# Altium schematic symbol library Connectors-Molex.SchLib: 9 symbols
Pins are listed as number, name and electrical type; pins without a type are passive.

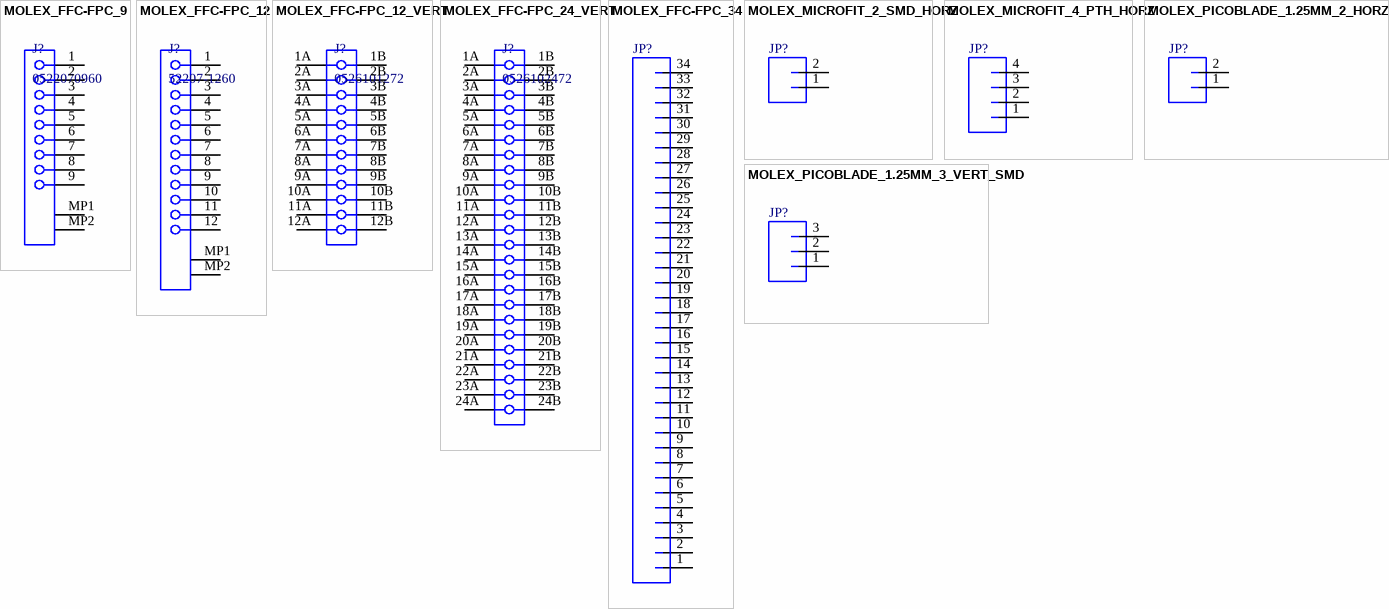
[diagram p0: symbols MOLEX_FFC-FPC_9 to MOLEX_PICOBLADE_1.25MM_3_VERT_SMD]

## MOLEX_FFC-FPC_9
designator J?, comment 0522070960
1.0 mm Pitch Easy-On(TM) Type FPC Connector, 2.7 mm Mated Height, Right Angle, ZIF, SMT, Top Contact, 9 Circuits, -30 to 85 degC, ELV and RoHS Compliant, Tape and Reel; Manufacturer: Molex; Polarized to PCB: Yes; Material - Metal: Phosphor Bronze; Material - Plating Termination: Tin; Mated Height: 2.70mm; Pitch - Mating Interface: 1.00mm; Entry Angle: 90degrees Angle; Current (Max per Contact): 1A; Durability (mating cycles max): 30; Circuits (Loaded): 9; Voltage (Max): 125V; Material - Plating Mating: Gold; PCB Locator: No; PartNumber: 0522070960; Number of Rows: 1; ComponentLink1Description: Manufacturer URL; Packing: Tape and Reel; RoHS: TRUE; ComponentLink1URL: http://www.molex.com/molex/index.jsp; PCB Retention: Yes; PackageReference: 0522070960; ComponentLink3Description: Package Specification; Pitch - Termination Interface: 1.00mm; Contact Position: Top; ComponentLink2Description: Datasheet; ComponentLink2URL: http://www.molex.com/webdocs/datasheets/pdf/en-us/0522070960_FFC_FPC_CONNECTORS.pdf; Stackable: No; ComponentLink3URL: http://www.molex.com/pdm_docs/sd/522070960_sd.pdf; Orientation: Right Angle; PackageDescription: 9-Lead FPC Connector, Pitch 1.0 mm; PackageVersion: Rev. F, 03/2007; Mounting Technology: Surface Mount
footprint MOLEX-FFC-FPC-1MM-9 (FPC Connector, 9-Leads, Right Angle, Pitch 1.0 mm, Mated Height 2.7 mm, SMT)
pins: 1, 2, 3, 4, 5, 6, 7, 8, 9, MP1, MP2

## MOLEX_FFC-FPC_12
designator J?, comment 52207-1260
1.0 mm Pitch Easy-On(TM) Type FPC Connector, 2.7 mm Mated Height, Right Angle, ZIF, SMT, Top Contact, 12 Circuits, -30 to 85 degC, ELV and RoHS Compliant, Tape and Reel; Manufacturer: Molex; Material - Plating Mating: Gold; Material - Metal: Phosphor Bronze; Voltage (Max): 125V; PCB Locator: No; Circuits (Loaded): 12; PCB Retention: Yes; Pitch - Termination Interface: 1.00mm; Current (Max per Contact): 1A; Mated Height: 2.70mm; Material - Plating Termination: Tin; Entry Angle: 90degrees Angle; Durability (mating cycles max): 30; ComponentLink3Description: Package Specification; Orientation: Right Angle; ComponentLink1Description: Manufacturer URL; PackageVersion: Rev. F, 03/2007; PackageReference: 522071260; RoHS: TRUE; Contact Position: Top; ComponentLink2URL: http://www.molex.com/webdocs/datasheets/pdf/en-us/0522071260_FFC_FPC_CONNECTORS.pdf; ComponentLink2Description: Datasheet; Pitch - Mating Interface: 1.00mm; Packing: Tape and Reel; PackageDescription: 12-Lead FPC Connector, Pitch 1.0 mm; ComponentLink1URL: http://www.molex.com/molex/index.jsp; Mounting Technology: Surface Mount; PartNumber: 52207-1260; Number of Rows: 1; Stackable: No; Polarized to PCB: Yes; ComponentLink3URL: http://www.molex.com/pdm_docs/sd/522071260_sd.pdf
footprint MOLEX-FFC-FPC-1MM-12 (FPC Connector, 12-Leads, Right Angle, Pitch 1.0 mm, Mated Height 2.7 mm, SMT)
pins: 1, 2, 3, 4, 5, 6, 7, 8, 9, 10, 11, 12, MP1, MP2

## MOLEX_FFC-FPC_12_VERT
designator J?, comment 0526101272
1.0 mm Pitch Easy-On(TM) Type FPC Connector, 5.75 mm Mated Height, Vertical, ZIF, SMT, 12 Circuits, -40 to 85 degC, ELV and RoHS Compliant, Tape and Reel; Manufacturer: Molex; PCB Retention: None; Material - Metal: Phosphor Bronze; PCB Locator: No; Current (Max per Contact): 1A; Material - Plating Mating: Gold; Circuits (Loaded): 12; Material - Plating Termination: Tin; Pitch - Mating Interface: 1.00mm; Mated Height: 5.75mm; Durability (mating cycles max): 30; Voltage (Max): 125V AC (RMS)/DC; ComponentLink2URL: http://www.molex.com/webdocs/datasheets/pdf/en-us/0526101272_FFC_FPC_CONNECTORS.pdf; Orientation: Vertical; PackageDescription: 12-Lead FPC Connector, Pitch 1.0 mm; ComponentLink2Description: Datasheet; Polarized to PCB: No; ComponentLink1Description: Manufacturer URL; Entry Angle: Vertical; PartNumber: 0526101272; PackageReference: 0526101272; Contact Position: N/A; Mounting Technology: Surface Mount; Stackable: No; ComponentLink3URL: http://www.molex.com/pdm_docs/sd/526101272_sd.pdf; ComponentLink1URL: http://www.molex.com/molex/index.jsp; Number of Rows: 1; RoHS: TRUE; PackageVersion: Rev. G, 02/2012; Packing: Tape and Reel; ComponentLink3Description: Package Specification
footprint MOLEX-FFC-FPC-1MM-12-VERT (FPC Connector, 12-Leads, Vertical, Pitch 1.0 mm, Mated Height 5.75 mm, SMT)
pins: 1A, 1B, 2A, 2B, 3A, 3B, 4A, 4B, 5A, 5B, 6A, 6B, 7A, 7B, 8A, 8B, 9A, 9B, 10A, 10B, 11A, 11B, 12A, 12B

## MOLEX_FFC-FPC_24_VERT
designator J?, comment 0526102472
1.0 mm Pitch Easy-On(TM) Type FPC Connector, 5.75 mm Mated Height, Vertical, ZIF, SMT, 24 Circuits, -40 to 85 degC, ELV and RoHS Compliant, Tape and Reel; Manufacturer: Molex; Pitch - Mating Interface: 1.00mm; Material - Plating Mating: Gold; Voltage (Max): 125V AC (RMS)/DC; Stackable: No; Circuits (Loaded): 24; Mated Height: 5.75mm; Material - Metal: Phosphor Bronze; Durability (mating cycles max): 30; Current (Max per Contact): 1A; PCB Retention: None; Material - Plating Termination: Tin; Packing: Tape and Reel; Contact Position: N/A; RoHS: TRUE; ComponentLink2Description: Datasheet; PackageReference: 0526102472; PackageVersion: Rev. G, 02/2012; ComponentLink1URL: http://www.molex.com/molex/index.jsp; PackageDescription: 24-Lead FPC Connector, Pitch 1.0 mm; ComponentLink3Description: Package Specification; Mounting Technology: Surface Mount; Orientation: Vertical; Number of Rows: 1; ComponentLink3URL: http://www.molex.com/pdm_docs/sd/526102472_sd.pdf; ComponentLink2URL: http://www.molex.com/webdocs/datasheets/pdf/en-us/0526102472_FFC_FPC_CONNECTORS.pdf; Polarized to PCB: No; Entry Angle: Vertical; ComponentLink1Description: Manufacturer URL; PCB Locator: No; PartNumber: 0526102472
footprint MOLEX-FFC-FPC-1MM-24-VERT (FPC Connector, 24-Leads, Vertical, Pitch 1.0 mm, Mated Height 5.75 mm, SMT)
pins: 1A, 1B, 2A, 2B, 3A, 3B, 4A, 4B, 5A, 5B, 6A, 6B, 7A, 7B, 8A, 8B, 9A, 9B, 10A, 10B, 11A, 11B, 12A, 12B, 13A, 13B, 14A, 14B, 15A, 15B, 16A, 16B, 17A, 17B, 18A, 18B, 19A, 19B, 20A, 20B, 21A, 21B, 22A, 22B, 23A, 23B, 24A, 24B

## MOLEX_FFC-FPC_34
designator JP?  (value not drawn)
Manufacturer: Molex; PartNumber: 51296-3494; PackageReference: FFC-FPC-0.5; Mounting Technology: Surface Mount
footprint MOLEX-FFC-FPC-0.5MM-34
pins: 1, 2, 3, 4, 5, 6, 7, 8, 9, 10, 11, 12, 13, 14, 15, 16, 17, 18, 19, 20, 21, 22, 23, 24, 25, 26, 27, 28, 29, 30, 31, 32, 33, 34

## MOLEX_MICROFIT_2_SMD_HORZ
designator JP?
Manufacturer: Molex; PartNumber: 43650-0212; Mounting Technology: Surface Mount; PackageReference: Microfit-3.0mm
footprint MOLEX-MICROFIT-2-SMD-HORZ (Micro-Fit 3.0™ Right Angle Header, 3.00mm Pitch, Single Row, 2 Circuits, with Solder Tab, Tin, Glow Wire Capable, Black)
pins: 1, 2

## MOLEX_MICROFIT_4_PTH_HORZ
designator JP?
Manufacturer: Molex; PartNumber: 43045-0400; Mounting Technology: Surface Mount; PackageReference: Microfit-3.0mm
footprint MOLEX-MICROFIT-4-PTH-HORZ
pins: 1, 2, 3, 4

## MOLEX_PICOBLADE_1.25MM_2_HORZ_SMD
designator JP?
Manufacturer: Molex; PartNumber: 53261-0271; Mounting Technology: Surface Mount; PackageReference: PicoBlade-1.25mm
footprint MOLEX-PICOBLADE-1.25MM-2-HORZ-SMD
pins: 1, 2

## MOLEX_PICOBLADE_1.25MM_3_VERT_SMD
designator JP?
Manufacturer: Molex; PartNumber: 0533980371; Mounting Technology: Surface Mount; PackageReference: PicoBlade-1.25mm
footprint MOLEX-PICOBLADE-1.25MM-3-VERT-SMD
pins: 1, 2, 3